# EAGLE library part BNO055 (library sensor)
28-pin LGA-28 9-Axis Accelerometer, Gyroscope & Magnetometer BNO055 package See links: RS <http://uk.rs-online.com/web/p/accelerometer-ics/8496171/> Datasheet <http://docs-europe.electrocomponents.com/webdocs/1378/0900766b81378c35.pdf>
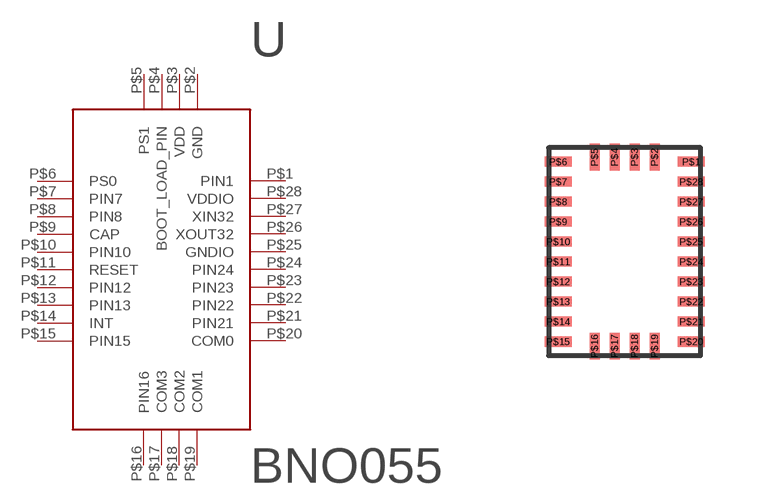
[diagram p0: symbol with the pads of LGA-28; footprint LGA-28]

Designator prefix -

## BNO055  [LGA-28]
P$1  PIN1
P$2  GND
P$3  VDD
P$4  BOOT_LOAD_PIN
P$5  PS1
P$6  PS0
P$7  PIN7
P$8  PIN8
P$9  CAP
P$10  PIN10
P$11  RESET
P$12  PIN12
P$13  PIN13
P$14  INT
P$15  PIN15
P$16  PIN16
P$17  COM3
P$18  COM2
P$19  COM1
P$20  COM0
P$21  PIN21
P$22  PIN22
P$23  PIN23
P$24  PIN24
P$25  GNDIO
P$26  XOUT32
P$27  XIN32
P$28  VDDIO

## Footprint LGA-28 (pad centres in mm)
28-pin LGA-28 9-Axis Accelerometer, Gyroscope & Magnetometer BNO055 package See links: RS <http://uk.rs-online.com/web/p/accelerometer-ics/8496171/> Datasheet <http://docs-europe.electrocomponents.com/webdocs/1378/0900766b81378c35.pdf>
smd 0.675 x 0.25: P$1 1.665,2.25; P$6 -1.663,2.25; P$7 -1.663,1.75; P$8 -1.663,1.25; P$9 -1.663,0.75; P$10 -1.663,0.25; P$11 -1.663,-0.25; P$12 -1.663,-0.75; P$13 -1.663,-1.25; P$14 -1.663,-1.75; P$15 -1.663,-2.25; P$20 1.665,-2.25; P$21 1.665,-1.75; P$22 1.665,-1.25; P$23 1.665,-0.75; P$24 1.665,-0.25; P$25 1.665,0.25; P$26 1.665,0.75; P$27 1.665,1.25; P$28 1.665,1.75
smd 0.25 x 0.675: P$2 0.75,2.362; P$3 0.25,2.362; P$4 -0.25,2.362; P$5 -0.75,2.362; P$16 -0.75,-2.362; P$17 -0.25,-2.362; P$18 0.25,-2.362; P$19 0.75,-2.362